# EAGLE library part 691337500008 (library WR-TBL Pluggable Connector)
WR-TBL Serie 3375 - 5.08 mm Double Level Vertical Male PCB Header w. Flanges & Nut Type KIND PROPERTIES Pitch 5.08 mm MATERIAL PROPERTIES Insulator Material PA66 Insulator Flammability Rating UL94 V-0 Contact Material Brass Contact Plating Tin GENERAL INFORMATION Operating Temperature -40 up to +105 °C Compliance RoHS ELECTRICAL PROPERTIES IR UL 10 A Working Voltage [UL] 300 V (AC) Withstanding Voltage [cULus] 1600 V (AC) Contact Resistance [cULus] 20 mΩ CERTIFICATION cULus Approval E315414 <https://www.we-online.com/catalog/media/o33289v209%20Family_WR-TBL_6913375000xx.jpg> Details see: https://www.we-online.com/catalog/en/TBL_5_08_3375_DOUBLE_LEVEL_VERTICAL_MALE_PCB_HEADER_W_FLANGES_AND_NUT_6913375000XX/ Updated by Ella Wu 2019-12-25 2022(C) Wurth Elektronik
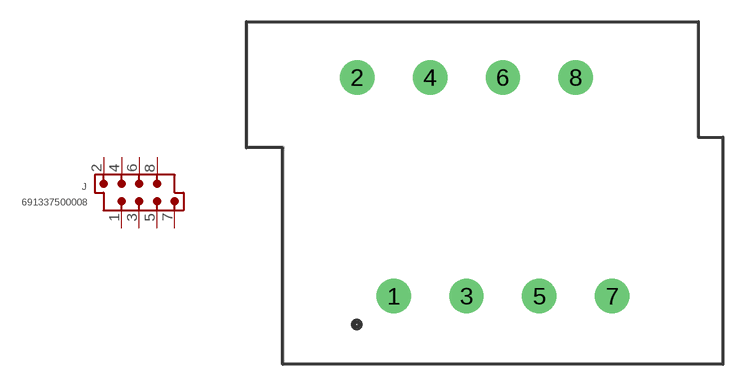
[diagram p293: symbol with the pads of 691337500008; footprint 691337500008]

Designator prefix J

## 691337500008 (DATASHEET-URL: https://www.we-online.com/redexpert/spec/691337500008?ae; IR-UL: 10A; MOUNT: THT; PART-NUMBER: 691337500008; PINS: 8; PITCH: 5.08mm; TYPE: Double Level Vertical; VALUE: 691337500008; WORKING-VOLTAGE-UL: 300V (AC))  [691337500008]
1  1  pas
2  2  pas
3  3  pas
4  4  pas
5  5  pas
6  6  pas
7  7  pas
8  8  pas

## Footprint 691337500008 (pad centres in mm)
WR-TBL Serie 3375 - 5.08 mm Double Level Vertical Male PCB Header w. Flanges & Nut Type Max Height = 22mm , Pitch 5.08mm , 8pins
drill 1.6: 1 -7.62,-7.62; 2 -10.16,7.62; 3 -2.54,-7.62; 4 -5.08,7.62; 5 2.54,-7.62; 6 0,7.62; 7 7.62,-7.62; 8 5.08,7.62